# Altium schematic symbol library smd_res1.SchLib: 1 symbol
Pins are listed as number, name and electrical type; pins without a type are passive.

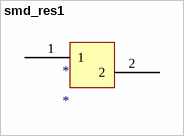
[diagram p0: symbol smd_res1]

## smd_res1
designator *
footprint smd_res1
pins: 1, 2